# Altium integrated library Humidity_TemperatureSensor_HTU31D.IntLib: 1 symbol
Pins are listed as number, name and electrical type; pins without a type are passive.

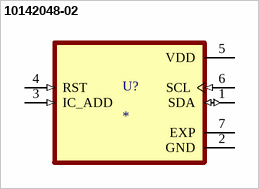
[diagram p0: symbol 10142048-02]

## 10142048-02
designator U?
Digital Relative Humidity sensor with Temperature output; MP: 10142048-02; Package: None; Price: None; Value: *; Availability: Unavailable
footprint SON80P250X250X100-7N_10142048-02
pins: 1 SDA (io), 2 GND (power), 3 IC_ADD (in), 4 RST (in), 5 VDD (power), 6 SCL (in), 7 EXP